# Altium footprint library MB1419.PcbLib: 58 footprints (part 1 of 4)
Each footprint in its own frame and in the unit in brackets; x right, y up, seen from the top. Pads: shape width x height; smd on the part's side, far side on the other; paste and mask are expansions set on the pad; w line width, h text height; cw(c..) or ccw(c..) is an arc to the next point about the centre after c.
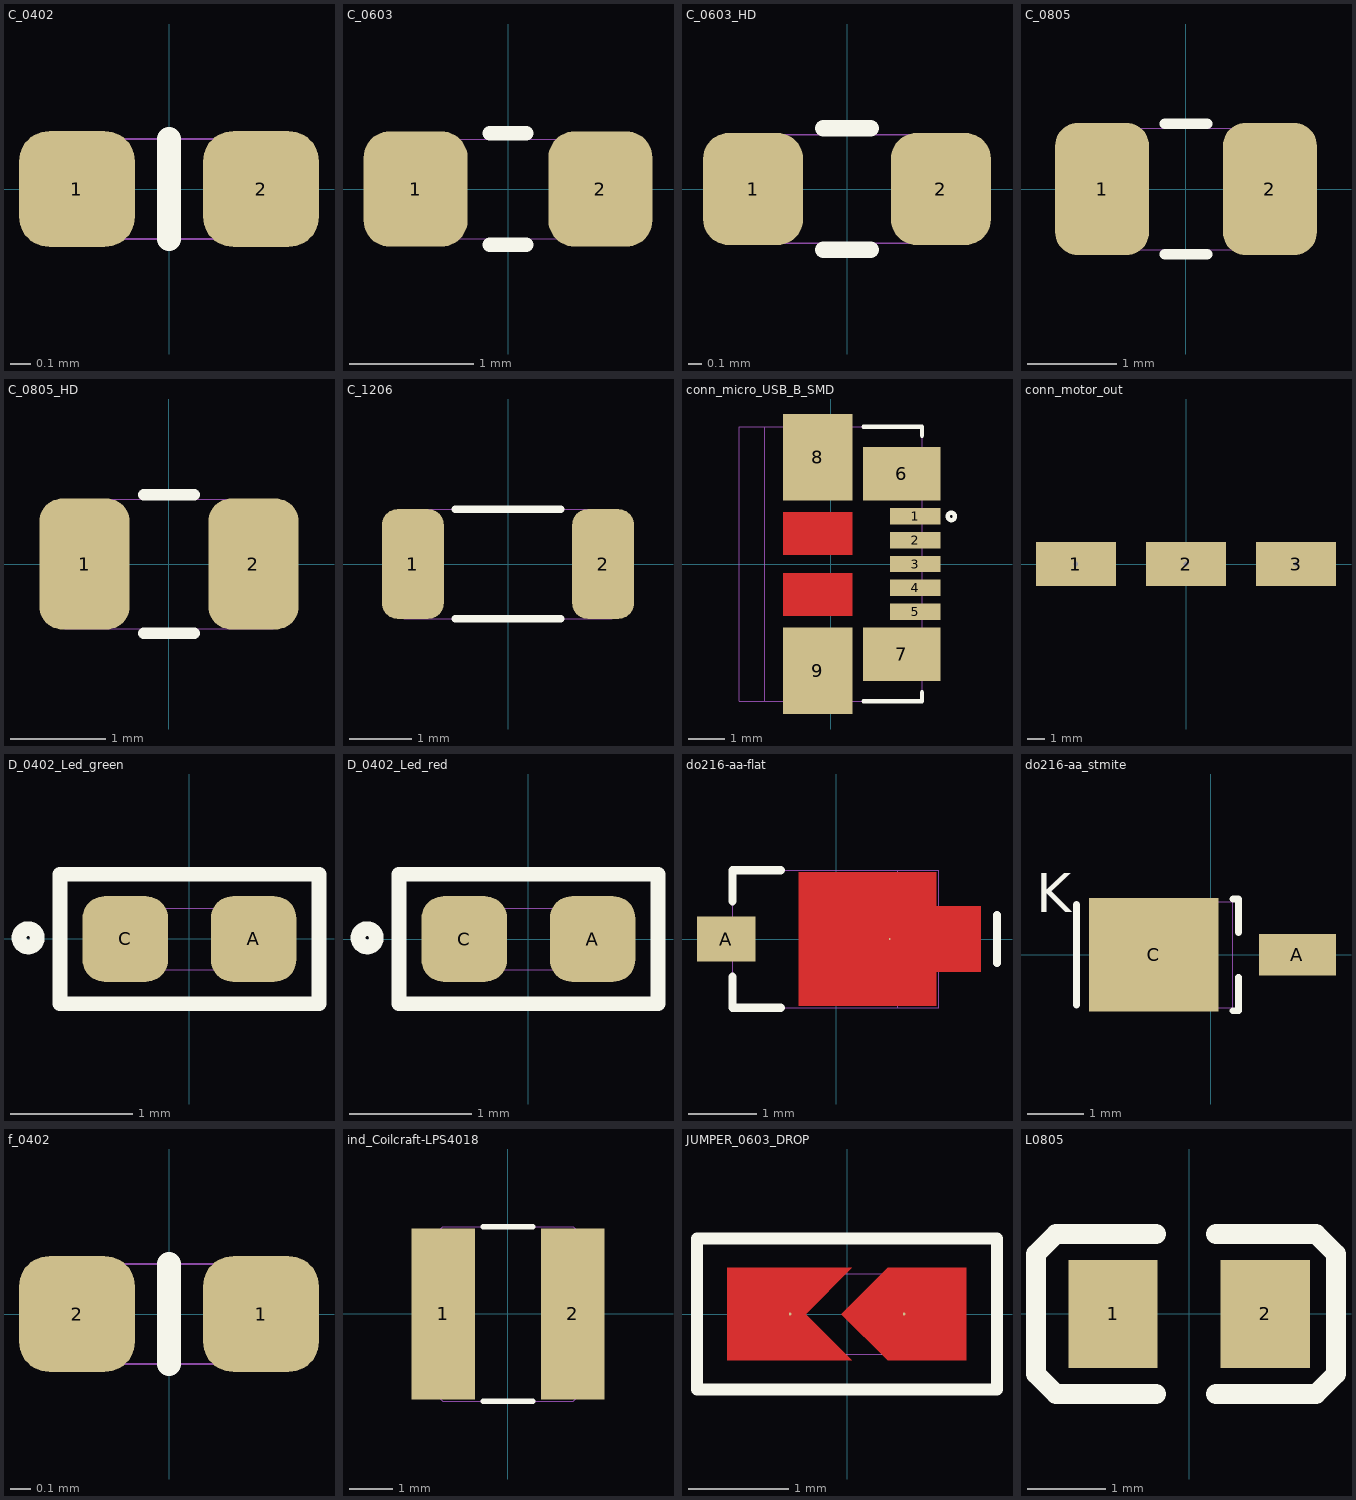
[diagram p0: the footprints below, top view; thin cyan lines are the x and y axes]

## C_0402 [mm] "C_0402"
pads (2):
  rrect52% 0.58x0.58 smd mask+0.05: 1(-0.46,0) 2(0.46,0)
Top Overlay:
  lines w0.12: 0,-0.25 0,0.25
Mechanical 14:
  lines w0.01: -0.5,-0.25 0.5,-0.25 0.5,0.25 -0.5,0.25 -0.5,-0.25
  text "2" at 0.175,-0.225 h0.7
  text "1" at -0.45,-0.225 h0.7
  text "'.Designator'" at 1.975,-0.125 h0.75
3D body "CAPC1005X55.STEP": height 0.55, standoff 0, extent -0.5,-0.25 0.5,0.25

## C_0603 [mm] "C_0603"
pads (2):
  rrect50% 0.84x0.93 smd mask+0.05: 1(-0.745,0) 2(0.745,0)
Top Overlay:
  lines w0.12: -0.145,-0.45 0.145,-0.45 ; -0.145,0.45 0.145,0.45
Mechanical 14:
  lines w0.01: -0.8,-0.4 -0.8,0.4 0.8,0.4 0.8,-0.4 -0.8,-0.4
  text "1" at -0.725,-0.325 h1
  text "2" at 0.35,-0.325 h1
  text "'.Designator'" at 0.525,0.525 h0.75
3D body "CAPC1608X90.STEP": height 0.9, standoff 0, extent -0.82,-0.415 0.78,0.395

## C_0603_HD [mm] "C_0603_HD"
pads (2):
  rrect51% 0.74x0.83 smd mask+0.05: 1(-0.695,0) 2(0.695,0)
Top Overlay:
  lines w0.12: -0.175,-0.45 0.175,-0.45 ; -0.175,0.45 0.175,0.45
Mechanical 14:
  lines w0.01: -0.8,-0.4 0.8,-0.4 0.8,0.4 -0.8,0.4 -0.8,-0.4
  text "2" at 0.35,-0.325 h1
  text "1" at -0.775,-0.325 h1
  text "'.Designator'" at -2.075,-1.25 h0.75
3D body "CAPC1608X90.STEP": height 0.9, standoff 0, extent -0.8,-0.405 0.8,0.405

## C_0805 [mm] "C_0805"
pads (2):
  rrect48% 1.05x1.48 smd mask+0.05: 1(-0.94,0) 2(0.94,0)
Top Overlay:
  lines w0.12: -0.235,-0.73 0.235,-0.73 ; -0.235,0.73 0.235,0.73
Mechanical 14:
  lines w0.01: -1.1,-0.68 1.1,-0.68 1.1,0.68 -1.1,0.68 -1.1,-0.68
  text "2" at 0.6,-0.325 h1
  text "1" at -1.025,-0.325 h1
  text "'.Designator'" at 2,0.175 h0.75
3D body "CAPC2012X140.STEP": height 1.4, standoff 0, extent -1,-0.625 1,0.625

## C_0805_HD [mm] "C_0805_HD"
pads (2):
  rrect51% 0.95x1.38 smd mask+0.05: 1(-0.89,0) 2(0.89,0)
Top Overlay:
  lines w0.12: -0.265,-0.73 0.265,-0.73 ; -0.265,0.73 0.265,0.73
Mechanical 14:
  lines w0.01: -1.1,-0.68 1.1,-0.68 1.1,0.68 -1.1,0.68 -1.1,-0.68
  text "2" at 0.6,-0.3 h1
  text "1" at -0.975,-0.325 h1
  text "'.Designator'" at -0.5,2 h0.75
3D body "CAPC2012X140.STEP": height 1.4, standoff 0, extent -1,-0.625 1,0.625

## C_1206 [mm] "C_1206"
pads (2):
  rrect50% 1x1.77 smd mask+0.05: 1(-1.535,0) 2(1.535,0)
Top Overlay:
  lines w0.12: -0.855,-0.88 0.855,-0.88 ; -0.855,0.88 0.855,0.88
Mechanical 14:
  lines w0.01: -1.68,-0.88 -1.68,0.88 1.68,0.88 1.68,-0.88 -1.68,-0.88
  text "1" at -1.575,-0.325 h1
  text "2" at 1.175,-0.325 h1
  text "'.Designator'" at 1.975,0.175 h0.75
3D body "CAPC3216X127.step": height 1.27, standoff 0, extent -1.6,-0.8 1.6,0.8

## conn_micro_USB_B_SMD [mm] "CONN_MICRO_USB_B_SMD"
pads (9):
  rect 1.37x0.45 smd mask+0.05: 1(2.314,1.299) 2(2.314,0.649) 3(2.314,0) 4(2.314,-0.65) 5(2.314,-1.3)
  rect 2.11x1.47 smd mask+0.05: 6(1.946,2.463) 7(1.946,-2.463)
  rect 1.9x2.36 smd mask+0.05: 8(-0.35,2.919) 9(-0.35,-2.919)
Top Layer:
  rectangle: -1.3,-1.425 0.6,-0.25
  rectangle: -1.3,0.25 0.6,1.425
Top Overlay:
  circle w0.12: c3.3,1.3 r0.1
  lines w0.12: 0.9,-3.75 2.5,-3.75 2.5,-3.5 ; 0.9,3.75 2.5,3.75 2.5,3.5
Mechanical 14:
  lines w0.01: -1.8,-3.75 -1.8,3.75 ; -2.5,-3.75 2.5,-3.75 2.5,3.75 -2.5,3.75 -2.5,-3.75
  text "7" at 2.3,-2.675 h1
  text "5" at 2.45,-1.525 h1
  text "4" at 2.475,-0.875 h1
  text "3" at 2.45,-0.2 h1
  text "2" at 2.45,0.45 h1
  text "9" at 0.025,-3.025 h1
  text "1" at 2.45,1.175 h1
  text "6" at 2.2,2.25 h1
  text "8" at 0.025,2.7 h1
  text "'.Designator'" at -0.135,1.735 h0.75
3D body "473460001.stp": height 2.72, standoff -0.22, extent -2.81,-3.99 2.62,3.99

## conn_motor_out [mm] "CONN_MOTOR_OUT"
pads (3):
  rect 4.5x2.5 / inner round 0.56 / far side rect 4.5x2.5 hole 0.254: 1(-6.2,0) 2(0,0) 3(6.2,0)
Mechanical 14:
  text "1" at -5.946,0 h1
  text "2" at 0.254,0 h1
  text "3" at 6.454,0 h1
  text "'.Designator'" at 2.05,-0.3 h0.75

## D_0402_Led_green [mm] "D_0402_LED_GREEN"
pads (2):
  rrect51% 0.7x0.7 smd mask+0.05: A(0.525,0) C(-0.525,0)
Top Overlay:
  circle w0.12: c-1.32,0.01 r0.075
  lines w0.12: -1.06,-0.53 -1.06,0.53 1.06,0.53 1.06,-0.53 -1.06,-0.53
Mechanical 14:
  lines w0.01: -0.5,-0.25 -0.5,0.083 -0.333,0.25 0.5,0.25 0.5,-0.25 -0.5,-0.25
  text "'.Designator'" at -1.95,-1.075 h0.75
  text "C" at -0.45,-0.175 h0.5
  text "A" at 0.175,-0.15 h0.5
3D body "LED_1006_G.STEP": height 0.08, standoff 0, extent -0.5,-0.3 0.5,0.3

## D_0402_Led_red [mm] "D_0402_LED_RED"
pads (2):
  rrect51% 0.7x0.7 smd mask+0.05: A(0.525,0) C(-0.525,0)
Top Overlay:
  circle w0.12: c-1.32,0.01 r0.075
  lines w0.12: -1.06,-0.53 1.06,-0.53 1.06,0.53 -1.06,0.53 -1.06,-0.53
Mechanical 14:
  lines w0.01: -0.5,-0.25 0.5,-0.25 0.5,0.25 -0.333,0.25 -0.5,0.083 -0.5,-0.25
  text "A" at 0.175,-0.15 h0.5
  text "C" at -0.475,-0.175 h0.5
  text "'.Designator'" at -1.975,-1.05 h0.75
3D body "VLMS1500-GS08.stp": height 0.32, standoff -0.03, extent -0.5,-0.25 0.5,0.25

## do216-aa-flat [mm] "DO216-AA-FLAT"
pads (2):
  rect 0.85x0.65 smd mask+0.05: A(-1.599,0)
  oct 0.025x0.025 smd: C(0.781,0)
Top Layer:
  region: -0.544,0.975 1.456,0.975 1.456,0.475 2.106,0.475 2.106,-0.475 1.456,-0.475 1.456,-0.975 -0.544,-0.975
Top Overlay:
  lines w0.12: -1.506,-0.55 -1.506,-1 -0.806,-1 ; -1.506,0.55 -1.506,1 -0.806,1 ; 2.344,-0.35 2.344,0.35
Mechanical 14:
  lines w0.01: 0.896,-1 0.896,1 ; -1.504,-1 1.496,-1 1.496,1 -1.504,1 -1.504,-1
  text "'.Designator'" at 0.425,-1.975 h0.75
  text "C" at 0.925,-0.325 h1
  text "A" at -1.425,-0.325 h1
3D body "DO216-AA-FLAT.STEP": height 0.85, standoff 0, extent -1.856,-0.954 1.944,0.954

## do216-aa_stmite [mm] "DO216-AA_STMITE"
pads (2):
  rect 1.38x0.75 smd mask+0.05: A(1.555,0)
  rect 2.32x2.03 smd mask+0.05: C(-1.015,0)
Top Overlay:
  lines w0.12: -2.4,-0.9 -2.4,0.9 ; 0.4,-1 0.5,-1 0.5,-0.4 ; 0.4,1 0.5,1 0.5,0.4
  text "K" at -3.125,0.525 h1.2
Mechanical 14:
  lines w0.01: -1.5,-0.95 -1.5,0.55 -1.1,0.95 0.4,0.95 0.4,-0.95 -1.5,-0.95
  text "A" at 0.475,-0.325 h1
  text "C" at -1.325,-0.325 h1
  text "'.Designator'" at -2.125,-0.025 h0.75
3D body "DO-216AA.STEP": height 1.01, standoff 0, extent -2,-0.99 1.85,1.01

## f_0402 [mm] "F_0402"
pads (2):
  rrect52% 0.58x0.58 smd mask+0.05: 1(0.46,0) 2(-0.46,0)
Top Overlay:
  lines w0.12: 0,-0.25 0,0.25
Mechanical 14:
  lines w0.01: -0.5,-0.25 -0.5,0.25 0.5,0.25 0.5,-0.25 -0.5,-0.25
  text "'.Designator'" at 2.05,1.1 h0.75
  text "2" at -0.5,-0.25 h0.75
  text "1" at 0.275,-0.25 h0.75
3D body "0435.250KRS.STEP": height 0.38, standoff 0, extent -0.495,-0.254 0.495,0.254

## ind_Coilcraft-LPS4018 [mm] "IND_COILCRAFT-LPS4018"
pads (2):
  rect 1.45x3.89 smd mask+0.05: 1(-1.475,0) 2(1.475,0)
Top Overlay:
  lines w0.12: -0.57,-1.99 0.57,-1.99 ; -0.57,1.99 0.57,1.99
Mechanical 14:
  lines w0.01: -1.99,-1.49 -1.49,-1.99 1.49,-1.99 1.99,-1.49 1.99,1.49 1.49,1.99 -1.49,1.99 -1.99,1.49 -1.99,-1.49
  text "1" at -1.55,-0.325 h1
  text "2" at 1.25,-0.35 h1
  text "'.Designator'" at 2.075,-0.7 h0.75
3D body "LPS4018.STEP": height 1.8, standoff 0, extent -1.99,-1.99 1.99,1.99

## JUMPER_0603_DROP [mil] "JUMPER_0603_DROP"
pads (2):
  oct 1x1 smd: 1(-22.26,0) 2(22.45,0)
Top Layer:
  region: 46.66,-18.12 15.95,-18.12 -2.16,-0.01 15.95,18.1 46.66,18.1
  region: -46.87,-18.12 1.95,-18.12 -16.16,-0.01 1.95,18.1 -46.87,18.1
Top Overlay:
  lines w4.72: -58.66,-29.53 -58.66,29.53 58.66,29.53 58.66,-29.53 -58.66,-29.53
Top Solder:
  rectangle: -48.82,-20.08 48.82,20.08
Mechanical 14:
  lines w0.39: -31.5,-15.75 31.5,-15.75 31.5,15.75 -31.5,15.75 -31.5,-15.75
  text "1" at -30.51,-12.8 h39.37
  text "2" at 13.78,-12.8 h39.37
  text "'.Designator'" at -79.72,8.86 h29.53
3D body "RESC1608X50.STEP": height 19.68, standoff 0, extent -31,-16.73 31,16.73

## L0805 [mm]
pads (2):
  rect 1.133x1.377 smd paste-100 mask+0.051: 1(-0.966,0) 2(0.966,0)
Top Overlay:
  lines w0.254: -0.421,-1.016 -1.691,-1.016 -1.945,-0.762 -1.945,-0.635 -1.945,0.762 -1.691,1.016 -1.564,1.016 -0.421,1.016 ; 0.341,-1.016 1.484,-1.016 1.611,-1.016 1.865,-0.762 1.865,0.635 1.865,0.762 1.611,1.016 0.341,1.016
Top Paste:
  region: -0.36,-0.22 -0.36,0.22 -0.745,0.689 -1.433,0.689 -1.533,0.589 -1.533,-0.588 -1.433,-0.688 -0.745,-0.688
  region: 0.36,-0.22 0.36,0.22 0.745,0.689 1.433,0.689 1.533,0.589 1.533,-0.588 1.433,-0.688 0.745,-0.688